# Altium footprint library Linx_CONSMA002_SMD_0.PcbLib: 1 footprints
Each footprint in its own frame and in the unit in brackets; x right, y up, seen from the top. Pads: shape width x height; smd on the part's side, far side on the other; paste and mask are expansions set on the pad; w line width, h text height; cw(c..) or ccw(c..) is an arc to the next point about the centre after c.
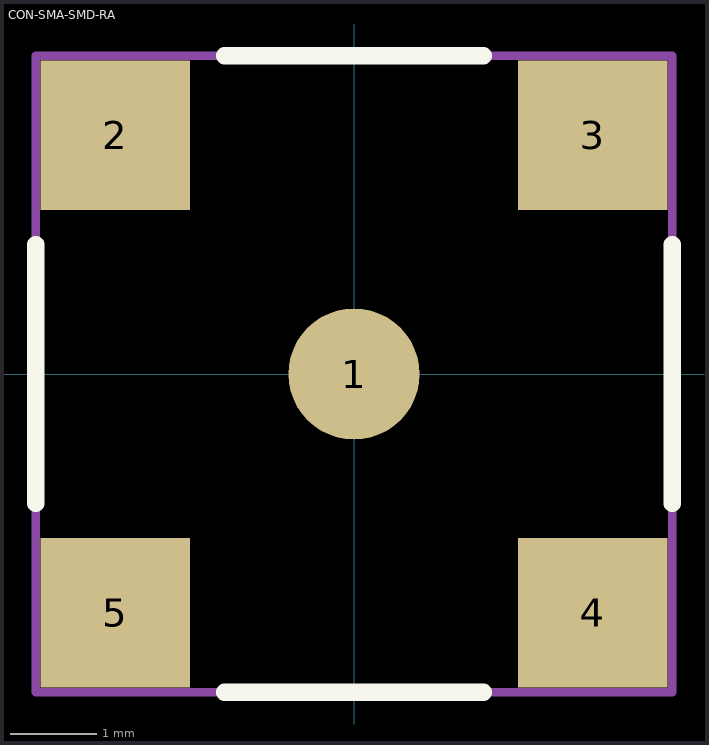
[diagram p0: the footprint, top view; thin cyan lines are the x and y axes]

## CON-SMA-SMD-RA [mil] "Connector, SMA Female, 5-Lead, SM, Right-Angle, Body 7x7mm"
height 442.91
pads (5):
  round 60 smd: 1(0,0)
  rect 68.5x68.5 smd: 2(-109.25,109.25) 3(109.25,109.25) 4(109.25,-109.25) 5(-109.25,-109.25)
Top Overlay:
  lines w7.87: -145.67,-59.25 -145.67,59.25 ; -59.25,-145.67 59.25,-145.67 ; -59.25,145.67 59.25,145.67 ; 145.67,-59.25 145.67,59.25
Mechanical 13:
  lines w3.94: -145.67,-145.67 -145.67,145.67 145.67,145.67 145.67,-145.67 -145.67,-145.67
Mechanical 15:
  lines w3.94: -19.69,0 19.68,0 ; 0,-19.68 0,19.69